# Altium footprint library PcbLib1.PcbLib: 58 footprints (part 2 of 4)
Each footprint in its own frame and in the unit in brackets; x right, y up, seen from the top. Pads: shape width x height; smd on the part's side, far side on the other; paste and mask are expansions set on the pad; w line width, h text height; cw(c..) or ccw(c..) is an arc to the next point about the centre after c.
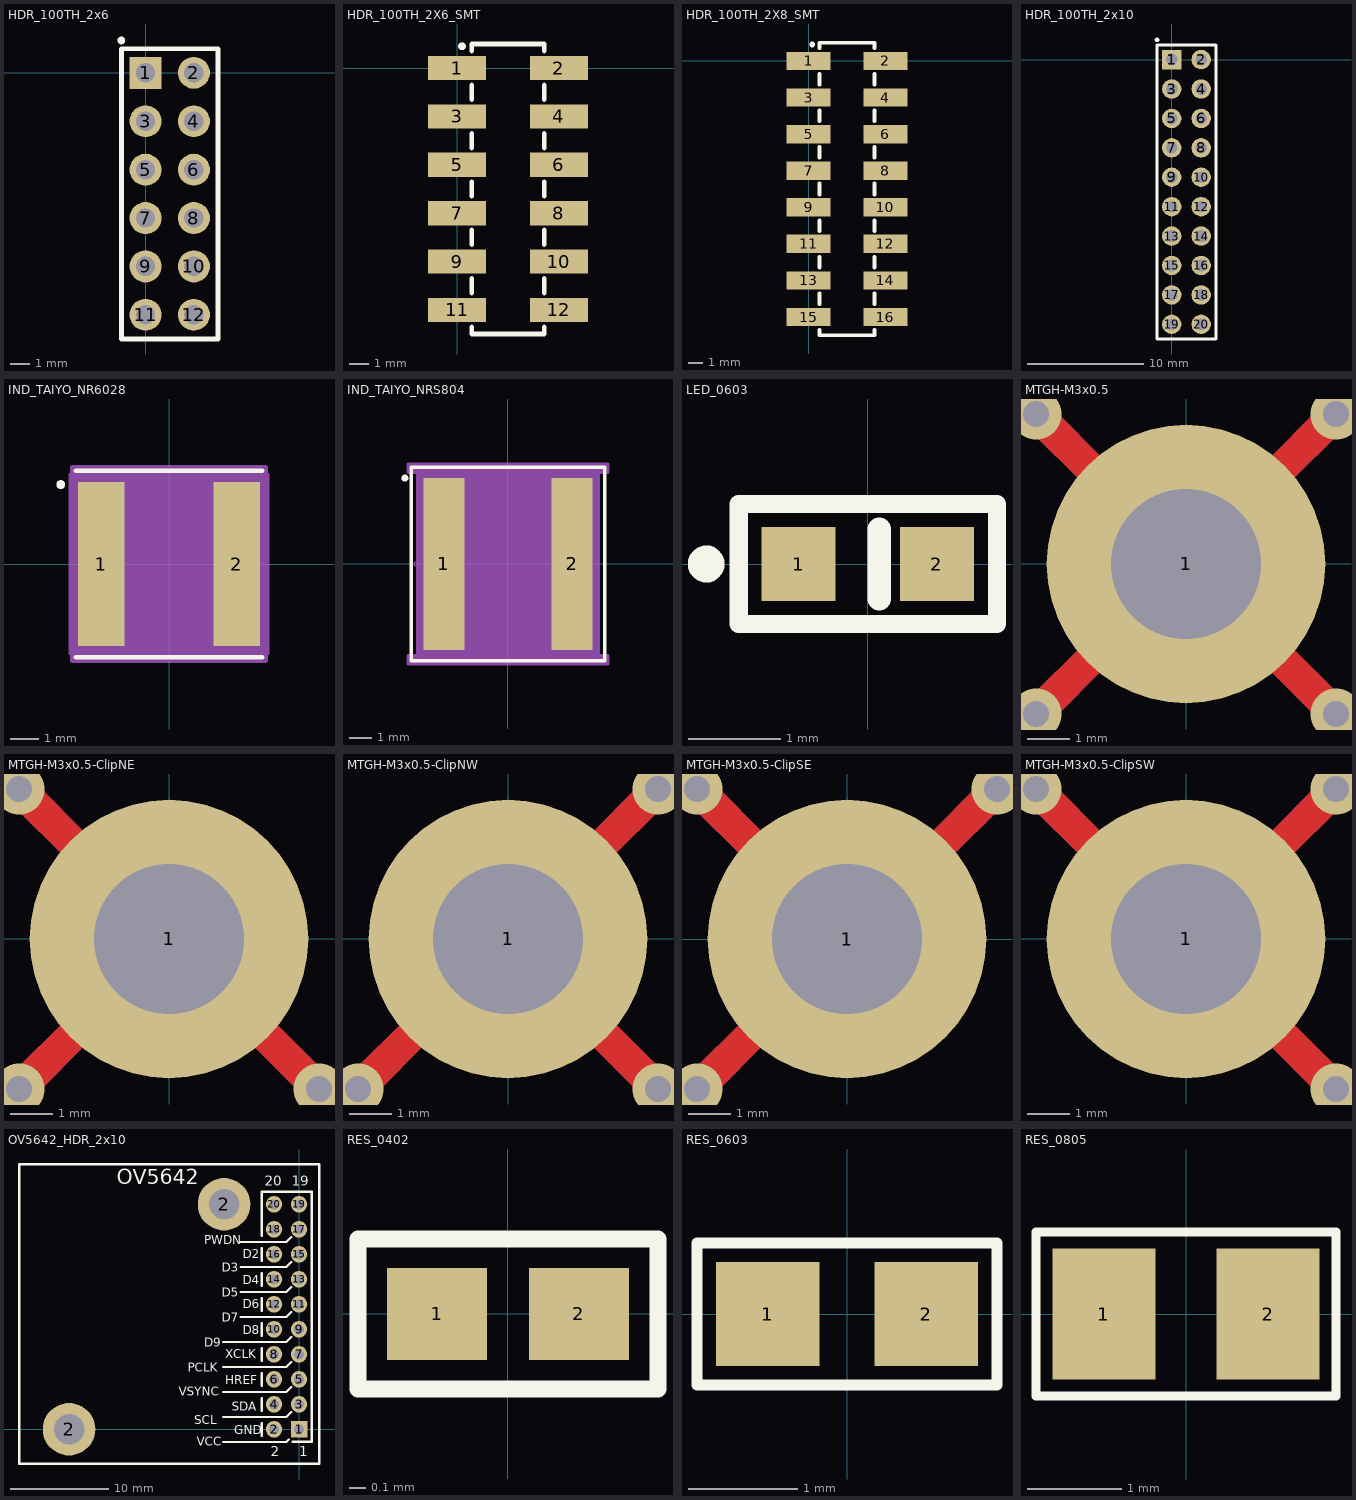
[diagram p1: the footprints below, top view; thin cyan lines are the x and y axes]

## HDR_100TH_2x6 [mil] "100TH pin header 2x6 vertical"
pads (12):
  rect 66x66 hole 40: 1(0,0)
  round 66 hole 40: 2(100,0) 3(0,-100) 4(100,-100) 5(0,-200) 6(100,-200) 7(0,-300) 8(100,-300) 9(0,-400) 10(100,-400) 11(0,-500) 12(100,-500)
Top Overlay:
  circle w10: c-50,67 r3
  lines w10: -50,-550 -50,50 150,50 150,-550 -50,-550

## HDR_100TH_2X6_SMT [mil] "100TH pin header, 2x6, SMT"
pads (12):
  rect 120x50 smd: 1(0,0) 2(210,0) 3(0,-100) 4(210,-100) 5(0,-200) 6(210,-200) 7(0,-300) 8(210,-300) 9(0,-400) 10(210,-400) 11(0,-500) 12(210,-500)
Top Overlay:
  circle w10: c10,45 r3
  lines w10: 30,-535 30,-550 180,-550 180,-535 ; 30,-465 30,-435 ; 30,-365 30,-335 ; 30,-265 30,-235 ; 30,-165 30,-135 ; 30,-65 30,-35 ; 30,35 30,50 180,50 180,35 ; 180,-465 180,-435 ; 180,-365 180,-335 ; 180,-265 180,-235 ; 180,-165 180,-135 ; 180,-65 180,-35

## HDR_100TH_2X8_SMT [mil] "100TH pin header, 2x8, SMT"
pads (16):
  rect 120x50 smd: 1(0,0) 2(210,0) 3(0,-100) 4(210,-100) 5(0,-200) 6(210,-200) 7(0,-300) 8(210,-300) 9(0,-400) 10(210,-400) 11(0,-500) 12(210,-500) 13(0,-600) 14(210,-600) 15(0,-700) 16(210,-700)
Top Overlay:
  circle w10: c10,45 r3
  lines w10: 30,-735 30,-750 180,-750 180,-735 ; 30,-665 30,-635 ; 30,-565 30,-535 ; 30,-465 30,-435 ; 30,-365 30,-335 ; 30,-265 30,-235 ; 30,-165 30,-135 ; 30,-65 30,-35 ; 30,35 30,50 180,50 180,35 ; 180,-665 180,-635 ; 180,-565 180,-535 ; 180,-465 180,-435 ; 180,-365 180,-335 ; 180,-265 180,-235 ; 180,-165 180,-135 ; 180,-65 180,-35

## HDR_100TH_2x10 [mil] "100TH pin header 2x10 vertical"
pads (20):
  rect 66x66 hole 40: 1(0,0)
  round 66 hole 40: 2(100,0) 3(0,-100) 4(100,-100) 5(0,-200) 6(100,-200) 7(0,-300) 8(100,-300) 9(0,-400) 10(100,-400) 11(0,-500) 12(100,-500) 13(0,-600) 14(100,-600) 15(0,-700) 16(100,-700) 17(0,-800) 18(100,-800) 19(0,-900) 20(100,-900)
Top Overlay:
  circle w10: c-50,67 r3
  lines w10: -50,-950 150,-950 150,50 -50,50 -50,-950

## IND_TAIYO_NR6028 [mil]
pads (2):
  rect 63x224 smd: 1(-92.5,0) 2(92.5,0)
Top Overlay:
  circle w6: c-147.64,108.27 r3
  lines w6: -127,-127 127,-127 ; -127,127 127,127
Mechanical 13:
  circle w0: c-119,0 r3
Mechanical 15:
  region: -132,-122 -134,-122 -134,122 -132,122 -132,132 132,132 132,122 134,122 134,-122 132,-122 132,-132 -132,-132
  lines w6: -134,-122 -132,-122 -132,-132 132,-132 132,-122 134,-122 134,122 132,122 132,132 -132,132 -132,122 -134,122 -134,-122
3D body: height 110.24, standoff 0, extent -118.11,-118.11 118.11,118.11

## IND_TAIYO_NRS804 [mil]
pads (2):
  rect 70.5x295 smd: 1(-110.25,0) 2(110.25,0)
Top Overlay:
  circle w6: c-177.17,147.64 r3
  lines w6: -166.5,-166.5 -166.5,166.5 166.5,166.5 166.5,-166.5 -166.5,-166.5
Mechanical 13:
  circle w0: c-158.5,0 r3
Mechanical 15:
  region: -171.5,-157.5 -155.5,-157.5 -155.5,157.5 -171.5,157.5 -171.5,171.5 171.5,171.5 171.5,157.5 155.5,157.5 155.5,-157.5 171.5,-157.5 171.5,-171.5 -171.5,-171.5
  lines w6: -171.5,-171.5 171.5,-171.5 171.5,-157.5 155.5,-157.5 155.5,157.5 171.5,157.5 171.5,171.5 -171.5,171.5 -171.5,157.5 -155.5,157.5 -155.5,-157.5 -171.5,-157.5 -171.5,-171.5
3D body: height 157.48, standoff 0, extent -157.48,-157.48 157.48,157.48

## LED_0603 [mm]
pads (2):
  rect 0.8x0.8 smd: 1(-0.75,0) 2(0.75,0)
Top Overlay:
  circle w0.2: c-1.75,0 r0.1
  lines w0.2: -1.4,-0.65 -1.4,0 -1.4,0.65 1.4,0.65 1.4,-0.65 -1.4,-0.65
  lines w0.254: 0.125,-0.375 0.125,0.375

## MTGH-M3x0.5 [mm] "M3 x 0.5 pan head mounting hole"
pads (1):
  round 6.5 / inner round 5 / far side round 6.5 hole 3.5 unplated: 1(0,0)
via -3.5,-3.5 diameter 1.2 hole 0.6
via 3.5,-3.5 diameter 1.2 hole 0.6
via 3.5,3.5 diameter 1.2 hole 0.6
via -3.5,3.5 diameter 1.2 hole 0.6
Top Layer:
  lines w0.75: -3.5,-3.5 -2,-2 ; -3.5,3.5 -2,2 ; 1.5,-1.5 3,-3 3.5,-3.5 ; 2,2 3.5,3.5 ; 3.5,-3.5 3.5,-3.5
Bottom Layer:
  lines w0.508: 0,0 0,0
  lines w0.75: -3.5,-3.5 -2,-2 ; -3.5,3.5 -2,2 ; 2,-2 3.5,-3.5 ; 2,2 3.5,3.5

## MTGH-M3x0.5-ClipNE [mm] "M3 x 0.5 pan head mounting hole, NE corner clipped"
pads (1):
  round 6.5 / inner round 5 / far side round 6.5 hole 3.5 unplated: 1(0,0)
via -3.5,-3.5 diameter 1.2 hole 0.6
via 3.5,-3.5 diameter 1.2 hole 0.6
via -3.5,3.5 diameter 1.2 hole 0.6
Top Layer:
  lines w0.75: -3.5,-3.5 -2,-2 ; -3.5,3.5 -2,2 ; 1.5,-1.5 3,-3 3.5,-3.5 ; 3.5,-3.5 3.5,-3.5
Bottom Layer:
  lines w0.508: 0,0 0,0
  lines w0.75: -3.5,-3.5 -2,-2 ; -3.5,3.5 -2,2 ; 2,-2 3.5,-3.5

## MTGH-M3x0.5-ClipNW [mm] "M3 x 0.5 pan head mounting hole, NW corner clipped"
pads (1):
  round 6.5 / inner round 5 / far side round 6.5 hole 3.5 unplated: 1(0,0)
via 3.5,3.5 diameter 1.2 hole 0.6
via 3.5,-3.5 diameter 1.2 hole 0.6
via -3.5,-3.5 diameter 1.2 hole 0.6
Top Layer:
  lines w0.75: -3.5,-3.5 -2,-2 ; 1.5,-1.5 3,-3 3.5,-3.5 ; 2,2 3.5,3.5 ; 3.5,-3.5 3.5,-3.5
Bottom Layer:
  lines w0.508: 0,0 0,0
  lines w0.75: -3.5,-3.5 -2,-2 ; 2,-2 3.5,-3.5 ; 2,2 3.5,3.5

## MTGH-M3x0.5-ClipSE [mm] "M3 x 0.5 pan head mounting hole, SE corner clipped"
pads (1):
  round 6.5 / inner round 5 / far side round 6.5 hole 3.5 unplated: 1(0,0)
via -3.5,-3.5 diameter 1.2 hole 0.6
via 3.5,3.5 diameter 1.2 hole 0.6
via -3.5,3.5 diameter 1.2 hole 0.6
Top Layer:
  lines w0.75: -3.5,-3.5 -2,-2 ; -3.5,3.5 -2,2 ; 2,2 3.5,3.5
Bottom Layer:
  lines w0.508: 0,0 0,0
  lines w0.75: -3.5,-3.5 -2,-2 ; -3.5,3.5 -2,2 ; 2,2 3.5,3.5

## MTGH-M3x0.5-ClipSW [mm] "M3 x 0.5 pan head mounting hole, SW corner clipped"
pads (1):
  round 6.5 / inner round 5 / far side round 6.5 hole 3.5 unplated: 1(0,0)
via 3.5,-3.5 diameter 1.2 hole 0.6
via 3.5,3.5 diameter 1.2 hole 0.6
via -3.5,3.5 diameter 1.2 hole 0.6
Top Layer:
  lines w0.75: -3.5,3.5 -2,2 ; 1.5,-1.5 3,-3 3.5,-3.5 ; 2,2 3.5,3.5 ; 3.5,-3.5 3.5,-3.5
Bottom Layer:
  lines w0.508: 0,0 0,0
  lines w0.75: -3.5,3.5 -2,2 ; 2,-2 3.5,-3.5 ; 2,2 3.5,3.5

## OV5642_HDR_2x10 [mil] "OV5642 camera 100TH pin header 2x10 vertical"
pads (22):
  rect 66x66 hole 40: 1(0,0)
  round 210 hole 122: 2(-920,0) 2(-300,900)
  round 66 hole 40: 2(-100,0) 3(0,100) 4(-100,100) 5(0,200) 6(-100,200) 7(0,300) 8(-100,300) 9(0,400) 10(-100,400) 11(0,500) 12(-100,500) 13(0,600) 14(-100,600) 15(0,700) 16(-100,700) 17(0,800) 18(-100,800) 19(0,900) 20(-100,900)
Top Overlay:
  lines w8: -305,-50 -50,-50 -40,-40 ; -305,50 -50,50 -30,70 ; -305,150 -50,150 -30,170 ; -305,250 -50,250 -30,270 ; -305,350 -50,350 -30,370 ; -235,450 -50,450 -30,470 ; -235,550 -50,550 -30,570 ; -235,650 -50,650 -30,670 ; -235,750 -50,750 -30,770
  lines w10: -150,-25 -150,25 ; -150,75 -150,125 ; -150,175 -150,225 ; -150,275 -150,325 ; -150,375 -150,425 ; -150,475 -150,525 ; -150,575 -150,625 ; -150,675 -150,725 ; -150,775 -150,950 50,950 50,-50 -25,-50 ; -1120,-137.8 80,-137.8 80,1060 -1120,1060 -1120,-137.8
  text "20" at -137.8,974.41 h40
  text "19" at -29.53,974.41 h40
  text "2" at -112.2,-108.27 h40
  text "1" at 0,-108.27 h40
  text "GND" at -260,-20 h35
  text "SDA" at -270,75 h35
  text "HREF" at -295,180 h35
  text "D6" at -225,485 h35
  text "D8" at -225,380 h35
  text "XCLK" at -295,285 h35
  text "D2" at -225,685 h35
  text "D4" at -225,580 h35
  text "D5" at -310,530 h35
  text "D3" at -310,630 h35
  text "PCLK" at -445,230 h35
  text "D9" at -380,330 h35
  text "D7" at -310,430 h35
  text "VSYNC" at -480.12,134.92 h35
  text "SCL" at -420,20 h35
  text "VCC" at -410,-65 h35
  text "PWDN" at -380,740 h35
  text "OV5642" at -730,980 h60

## RES_0402 [mm]
pads (2):
  rect 0.6x0.55 smd: 1(-0.425,0) 2(0.425,0)
Top Overlay:
  lines w0.1: -0.9,-0.45 -0.9,0.45 0.9,0.45 0.9,-0.45 -0.9,-0.45

## RES_0603 [mm]
pads (2):
  rect 0.95x0.95 smd: 1(-0.725,0) 2(0.725,0)
Top Overlay:
  lines w0.1: -1.375,-0.65 -1.375,0.65 1.375,0.65 1.375,-0.65 -1.375,-0.65

## RES_0805 [mm]
pads (2):
  rect 1.1x1.4 smd: 1(-0.875,0) 2(0.875,0)
Top Overlay:
  lines w0.1: -1.6,-0.875 1.6,-0.875 1.6,0.875 -1.6,0.875 -1.6,-0.875
3D body: height 0.6, standoff 0, extent -1,-0.625 1,0.625